# EAGLE library part BME280 (library BME280)
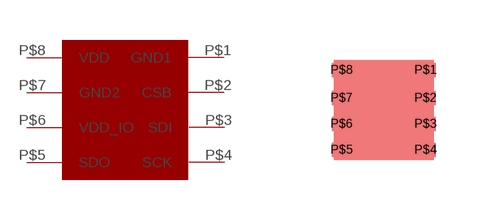
[diagram p0: symbol with the pads of BME280; footprint BME280]

Designator prefix -

## BME280DIP-8  [BME280]
P$1  GND1
P$2  CSB
P$3  SDI
P$4  SCK
P$5  SDO
P$6  VDD_IO
P$7  GND2
P$8  VDD

## Footprint BME280 (pad centres in mm)
smd 0.5 x 0.35: P$1 2.8,2.25; P$2 2.8,1.55; P$3 2.8,0.9; P$4 2.8,0.25; P$5 0.7,0.25; P$6 0.7,0.9; P$7 0.7,1.55; P$8 0.7,2.25